# Altium footprint library SR PCB Library V01.PcbLib: 402 footprints (part 17 of 26)
Each footprint in its own frame and in the unit in brackets; x right, y up, seen from the top. Pads: shape width x height; smd on the part's side, far side on the other; paste and mask are expansions set on the pad; w line width, h text height; cw(c..) or ccw(c..) is an arc to the next point about the centre after c.
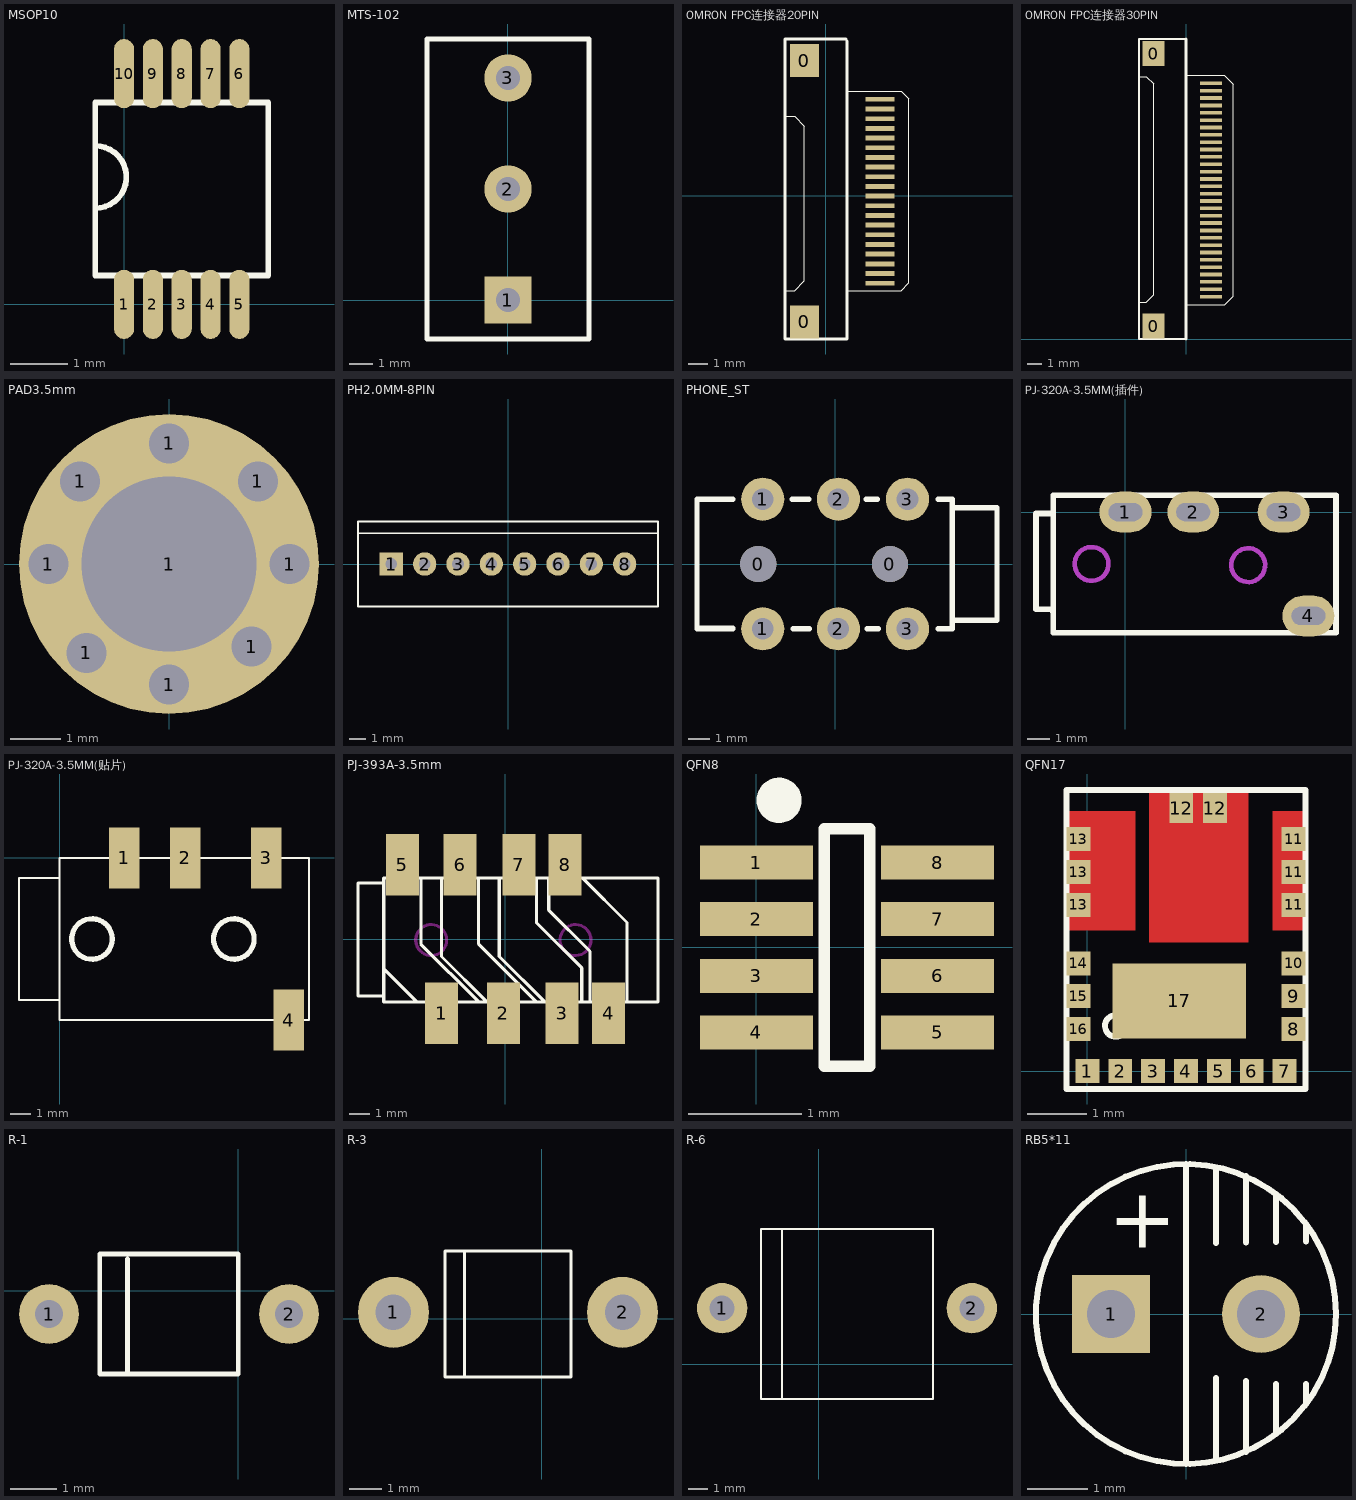
[diagram p16: the footprints below, top view; thin cyan lines are the x and y axes]

## MSOP10 [mm]
pads (10):
  oval 0.35x1.2 smd: 1(0,0) 2(0.5,0) 3(1,0) 4(1.5,0) 5(2,0) 6(2,4) 7(1.5,4) 8(1,4) 9(0.5,4) 10(0,4)
Top Overlay:
  lines w0.1: -0.5,1.666 ccw(c-0.5,2.207) -0.5,2.748 ; -0.5,0.5 -0.5,3.5 2.5,3.5 2.5,0.5 -0.5,0.5

## MTS-102 [mm]
pads (3):
  rect 2x2 hole 1: 1(0,0)
  round 2 hole 1: 2(0,4.7) 3(0,9.4)
Top Overlay:
  lines w0.2: -3.43,-1.65 -3.43,4.19 -3.43,11.05 3.43,11.05 3.43,-1.65 -3.43,-1.65

## OMRON FPC连接器20PIN [mm]
pads (22):
  rect 1.5x1.7 smd: 0(-1.106,-6.516) 0(-1.106,6.984)
  rect 1.5x0.25 smd: 1(2.794,-4.516) 2(2.794,-4.016) 3(2.794,-3.516) 4(2.794,-3.016) 5(2.794,-2.516) 6(2.794,-2.016) 7(2.794,-1.516) 8(2.794,-1.016) 9(2.794,-0.516) 10(2.794,-0.016) 11(2.794,0.484) 12(2.794,0.984) 13(2.794,1.484) 14(2.794,1.984) 15(2.794,2.484) 16(2.794,2.984) 17(2.794,3.484) 18(2.794,3.984) 19(2.794,4.484) 20(2.794,4.984)
Top Overlay:
  lines w0.05: -2.1,-4.9 -1.6,-4.9 ; -2,4.1 -1.6,4.1 -1.1,3.6 -1.1,-4.4 -1.6,-4.9 ; 1.1,5.4 3.9,5.4 4.3,5 4.3,-4.5 3.9,-4.9 1.1,-4.9 ; -1.6,-4.9 -1.6,-4.9 ; 1.1,-4.9 1.1,-4.9
  lines w0.15: 1.05,-7.4 -2.1,-7.4 -2.1,8.1 1.05,8.1
  lines w0.172: 1.1,-7.4 1.1,8
Mechanical 1:
  region: 2.544,-4.441 2.544,-4.591 3.144,-4.591 3.144,-4.441
  region: 2.544,-3.941 2.544,-4.091 3.144,-4.091 3.144,-3.941
  region: 2.544,-3.441 2.544,-3.591 3.144,-3.591 3.144,-3.441
  region: 2.544,-2.941 2.544,-3.091 3.144,-3.091 3.144,-2.941
  region: 2.544,-2.441 2.544,-2.591 3.144,-2.591 3.144,-2.441
  region: 2.544,-1.941 2.544,-2.091 3.144,-2.091 3.144,-1.941
  region: 2.544,-1.441 2.544,-1.591 3.144,-1.591 3.144,-1.441
  region: 2.544,-0.941 2.544,-1.091 3.144,-1.091 3.144,-0.941
  region: 2.544,-0.441 2.544,-0.591 3.144,-0.591 3.144,-0.441
  region: 2.544,0.059 2.544,-0.091 3.144,-0.091 3.144,0.059
  region: 2.544,0.559 2.544,0.409 3.144,0.409 3.144,0.559
  region: 2.544,1.059 2.544,0.909 3.144,0.909 3.144,1.059
  region: 2.544,1.559 2.544,1.409 3.144,1.409 3.144,1.559
  region: 2.544,2.059 2.544,1.909 3.144,1.909 3.144,2.059
  region: -1.656,-6.216 -1.656,-6.816 -0.556,-6.816 -0.556,-6.216

## OMRON FPC连接器30PIN [mm]
pads (32):
  rect 1.5x1.7 smd: 0(-2.206,0.884) 0(-2.2,19.4)
  rect 1.5x0.25 smd: 1(1.694,2.884) 2(1.694,3.384) 3(1.694,3.884) 4(1.694,4.384) 5(1.694,4.884) 6(1.694,5.384) 7(1.694,5.884) 8(1.694,6.384) 9(1.694,6.884) 10(1.694,7.384) 11(1.694,7.884) 12(1.694,8.384) 13(1.694,8.884) 14(1.694,9.384) 15(1.694,9.884) 16(1.694,10.384) 17(1.694,10.884) 18(1.694,11.384) 19(1.694,11.884) 20(1.694,12.384) 21(1.694,12.884) 22(1.694,13.384) 23(1.694,13.884) 24(1.694,14.384) 25(1.694,14.884) 26(1.694,15.384) 27(1.694,15.884) 28(1.694,16.384) 29(1.694,16.884) 30(1.694,17.384)
Top Overlay:
  lines w0.05: -3.2,2.5 -2.7,2.5 ; -3.2,17.85 -2.7,17.85 -2.2,17.35 -2.2,11 -2.2,3 -2.7,2.5 ; 0,2.334 0.166,2.334 2.634,2.334 3.2,2.9 3.2,17.328 2.594,17.934 0.094,17.934 ; -2.7,2.5 -2.7,2.5
  lines w0.15: -0.05,0 -3.2,0 -3.2,20.4 0,20.4
  lines w0.172: 0,0 0,20.4
Mechanical 1:
  region: -2.756,1.184 -2.756,0.584 -1.656,0.584 -1.656,1.184
  region: 1.444,9.459 1.444,9.309 2.044,9.309 2.044,9.459
  region: 1.444,8.959 1.444,8.809 2.044,8.809 2.044,8.959
  region: 1.444,8.459 1.444,8.309 2.044,8.309 2.044,8.459
  region: 1.444,7.959 1.444,7.809 2.044,7.809 2.044,7.959
  region: 1.444,7.459 1.444,7.309 2.044,7.309 2.044,7.459
  region: 1.444,6.959 1.444,6.809 2.044,6.809 2.044,6.959
  region: 1.444,6.459 1.444,6.309 2.044,6.309 2.044,6.459
  region: 1.444,5.959 1.444,5.809 2.044,5.809 2.044,5.959
  region: 1.444,5.459 1.444,5.309 2.044,5.309 2.044,5.459
  region: 1.444,4.959 1.444,4.809 2.044,4.809 2.044,4.959
  region: 1.444,4.459 1.444,4.309 2.044,4.309 2.044,4.459
  region: 1.444,3.959 1.444,3.809 2.044,3.809 2.044,3.959
  region: 1.444,3.459 1.444,3.309 2.044,3.309 2.044,3.459
  region: 1.444,2.959 1.444,2.809 2.044,2.809 2.044,2.959

## PAD3.5mm [mm]
height 11.5
pads (9):
  round 0.8 hole 0.8: 1(-2.413,0) 1(-1.778,1.651) 1(-1.651,-1.778) 1(0,-2.413) 1(0,2.413) 1(1.651,-1.651) 1(1.778,1.651) 1(2.413,0)
  round 6 hole 3.5: 1(0,0)

## PH2.0MM-8PIN [mm] "2.0mm带锁HY-8A"
pads (8):
  rect 1.4x1.4 hole 0.7: 1(-7,0)
  round 1.4 hole 0.7: 2(-5,0) 3(-3,0) 4(-1,0) 5(1,0) 6(3,0) 7(5,0) 8(7,0)
Top Overlay:
  lines w0.1: -9,1.85 9,1.85 ; -9,-2.55 9,-2.55 9,2.55 -9,2.55 -9,-2.55

## PHONE_ST [mm]
pads (8):
  round 1.676 hole 1.676: 0(-3.556,0) 0(2.54,0)
  round 2 hole 1: 1(-3.35,-3) 1(-3.35,3) 2(0.15,-3) 2(0.15,3) 3(3.35,-3) 3(3.35,3)
Top Overlay:
  lines w0.254: -6.393,-2.969 -4.742,-2.969 ; -4.742,-3.007 -6.393,-3.007 -6.393,3 -4.742,3 ; -1.986,3 -1.224,3 ; -1.948,-3.007 -1.186,-3.007 ; 1.443,3 1.951,3 ; 1.481,-3.007 1.989,-3.007 ; 4.783,-3.007 5.33,-3.007 ; 4.783,3 5.418,3 5.418,-3.007 ; 5.418,-2.6 7.493,-2.6 7.493,2.6 5.418,2.6

## PJ-320A-3.5MM(插件) [mm]
pads (4):
  oval 2.3x1.8 hole 0.8 slot 1.5 at 0 deg: 1(0,0) 2(3,0) 3(7,0) 4(8.1,-4.6)
Top Overlay:
  lines w0.254: -3.2,-4.41 -3.302,-4.309 -3.962,-4.309 -3.962,-0.067 -3.2,-0.067 ; -3.2,-5.35 9.322,-5.35 9.322,0.75 -3.2,0.75 -3.2,-5.35
Keep-Out Layer:
  lines w0.2: -2.032,-1.769 ccw(c-1.501,-2.299) -2.007,-1.745 ; 4.903,-1.819 ccw(c5.433,-2.35) 4.928,-1.796
Mechanical 1:
  lines w0.2: -2.032,-1.769 ccw(c-1.501,-2.299) -2.007,-1.745 ; 4.903,-1.819 ccw(c5.433,-2.35) 4.928,-1.796

## PJ-320A-3.5MM(贴片) [mm]
pads (4):
  rect 1.5x3 smd: 1(3.2,0) 2(6.2,0) 3(10.2,0) 4(11.3,-8)
Top Overlay:
  circle w0.254: c8.6,-4 r1
  circle w0.254: c1.6,-4 r1
  lines w0.1: 0,-7 -2,-7 -2,-1 0,-1 ; 0,-8 0,0 12.3,0 12.3,-8 12,-8 0,-8

## PJ-393A-3.5mm [mm]
pads (8):
  rect 1.6x3 smd: 1(-3.1,-3.6) 2(-0.1,-3.6) 3(2.75,-3.6) 4(5,-3.6) 5(-5,3.6) 6(-2.2,3.6) 7(0.65,3.6) 8(2.9,3.6)
Top Overlay:
  lines w0.15: -5.9,-1.4 -5.9,-1.45 -4.3,-3.05 ; -4.1,2.95 -4.1,-0.25 -1.3,-3.05 ; -3.1,2.95 -3.1,-0.85 -0.9,-3.05 ; -1.3,2.95 -1.3,-0.25 1.5,-3.05 ; -0.3,2.95 -0.3,-0.85 1.9,-3.05 ; 1.5,2.95 1.5,0.8 3.7,-1.4 3.7,-3.05 ; 2.1,2.95 2.1,1.4 4.1,-0.6 4.1,-3.05 ; 3.7,2.95 3.75,2.95 5.9,0.8 5.9,-3.05 ; 7.4,-3 7.4,-3.05 ; 7.4,-3.05 7.4,2.95 -5.9,2.95 -5.9,-3.05 7.4,-3.05 ; -7.15,-2.769 -7.15,2.718 -5.9,2.718 -5.9,-2.769 -7.15,-2.769
Keep-Out Layer:
  circle w0.15: c-3.6,-0.05 r0.75
  circle w0.15: c3.4,-0.05 r0.75

## QFN8 [mm]
pads (8):
  rect 1x0.3 smd: 1(0,0.75) 2(0,0.25) 3(0,-0.25) 4(0,-0.75) 5(1.6,-0.75) 6(1.6,-0.25) 7(1.6,0.25) 8(1.6,0.75)
Top Overlay:
  circle w0.2: c0.2,1.3 r0.1
  lines w0.1: 0.6,-1.05 1,-1.05 1,1.05 0.6,1.05 0.6,-1.05

## QFN17 [mm]
pads (22):
  rect 0.4x0.4 smd: 1(0,0) 2(0.55,0) 3(1.1,0) 4(1.65,0) 5(2.2,0) 6(2.75,0) 7(3.3,0) 8(3.45,0.703) 9(3.45,1.253) 10(3.45,1.803) 11(3.45,2.78) 11(3.45,3.33) 11(3.45,3.88) 13(-0.15,2.78) 13(-0.15,3.33) 13(-0.15,3.88) 14(-0.15,1.803) 15(-0.15,1.253) 16(-0.15,0.703)
  rect 0.4x0.5 smd: 12(1.57,4.4) 12(2.132,4.4)
  rect 2.238x1.25 smd: 17(1.538,1.173)
Top Layer:
  rectangle: -0.35,2.35 0.803,4.35
  rectangle: 3.097,2.35 3.65,4.35
  rectangle: 1.027,2.15 2.694,4.72
Top Overlay:
  lines w0.1: 0.65,0.8 ccw(c0.475,0.756) 0.655,0.756 ; -0.35,-0.3 3.65,-0.3 3.65,4.7 -0.35,4.7 -0.35,-0.3

## R-1 [mm]
pads (2):
  round 1.3 hole 0.6: 1(-4.1,-0.5) 2(1.1,-0.5)
Top Overlay:
  lines w0.1: -2.4,-1.8 -2.4,0.7 ; -3,-1.8 -3,0.8 0,0.8 0,-1.8 -3,-1.8

## R-3 [mm]
pads (2):
  round 2.2 hole 1.1: 1(-4.6,0.2) 2(2.5,0.2)
Top Overlay:
  lines w0.1: -2.4,-1.8 -2.4,2.1 ; -3,-1.8 -3,2.1 0.9,2.1 0.9,-1.8 -3,-1.8

## R-6 [mm]
pads (2):
  round 2.6 hole 1.3: 1(-5,2.9) 2(7.9,2.9)
Top Overlay:
  lines w0.1: -1.9,-1.8 -1.9,7 ; -3,-1.8 5.9,-1.8 5.9,7 -3,7 -3,-1.8

## RB5*11 [mm]
height 11
pads (2):
  rect 1.3x1.3 hole 0.8: 1(-1.25,0)
  round 1.3 hole 0.8: 2(1.25,0)
Top Overlay:
  circle w0.1: c0,0 r2.5
  lines w0.1: 0,-2.5 0,2.5 ; 0.5,-2.4 0.5,-1.07 ; 0.5,1.18 0.5,2.4 ; 1,-2.3 1,-1.12 ; 1,1.19 1,2.3 ; 1.5,-2 1.5,-1.17 ; 1.5,1.2 1.5,2 ; 2,-1.5 2,-1.17 ; 2,1.21 2,1.5
  text "+" at -1.3,1.1 h1